# Altium footprint library CONNECTOR.PcbLib: 181 footprints (part 11 of 12)
Each footprint in its own frame and in the unit in brackets; x right, y up, seen from the top. Pads: shape width x height; smd on the part's side, far side on the other; paste and mask are expansions set on the pad; w line width, h text height; cw(c..) or ccw(c..) is an arc to the next point about the centre after c.
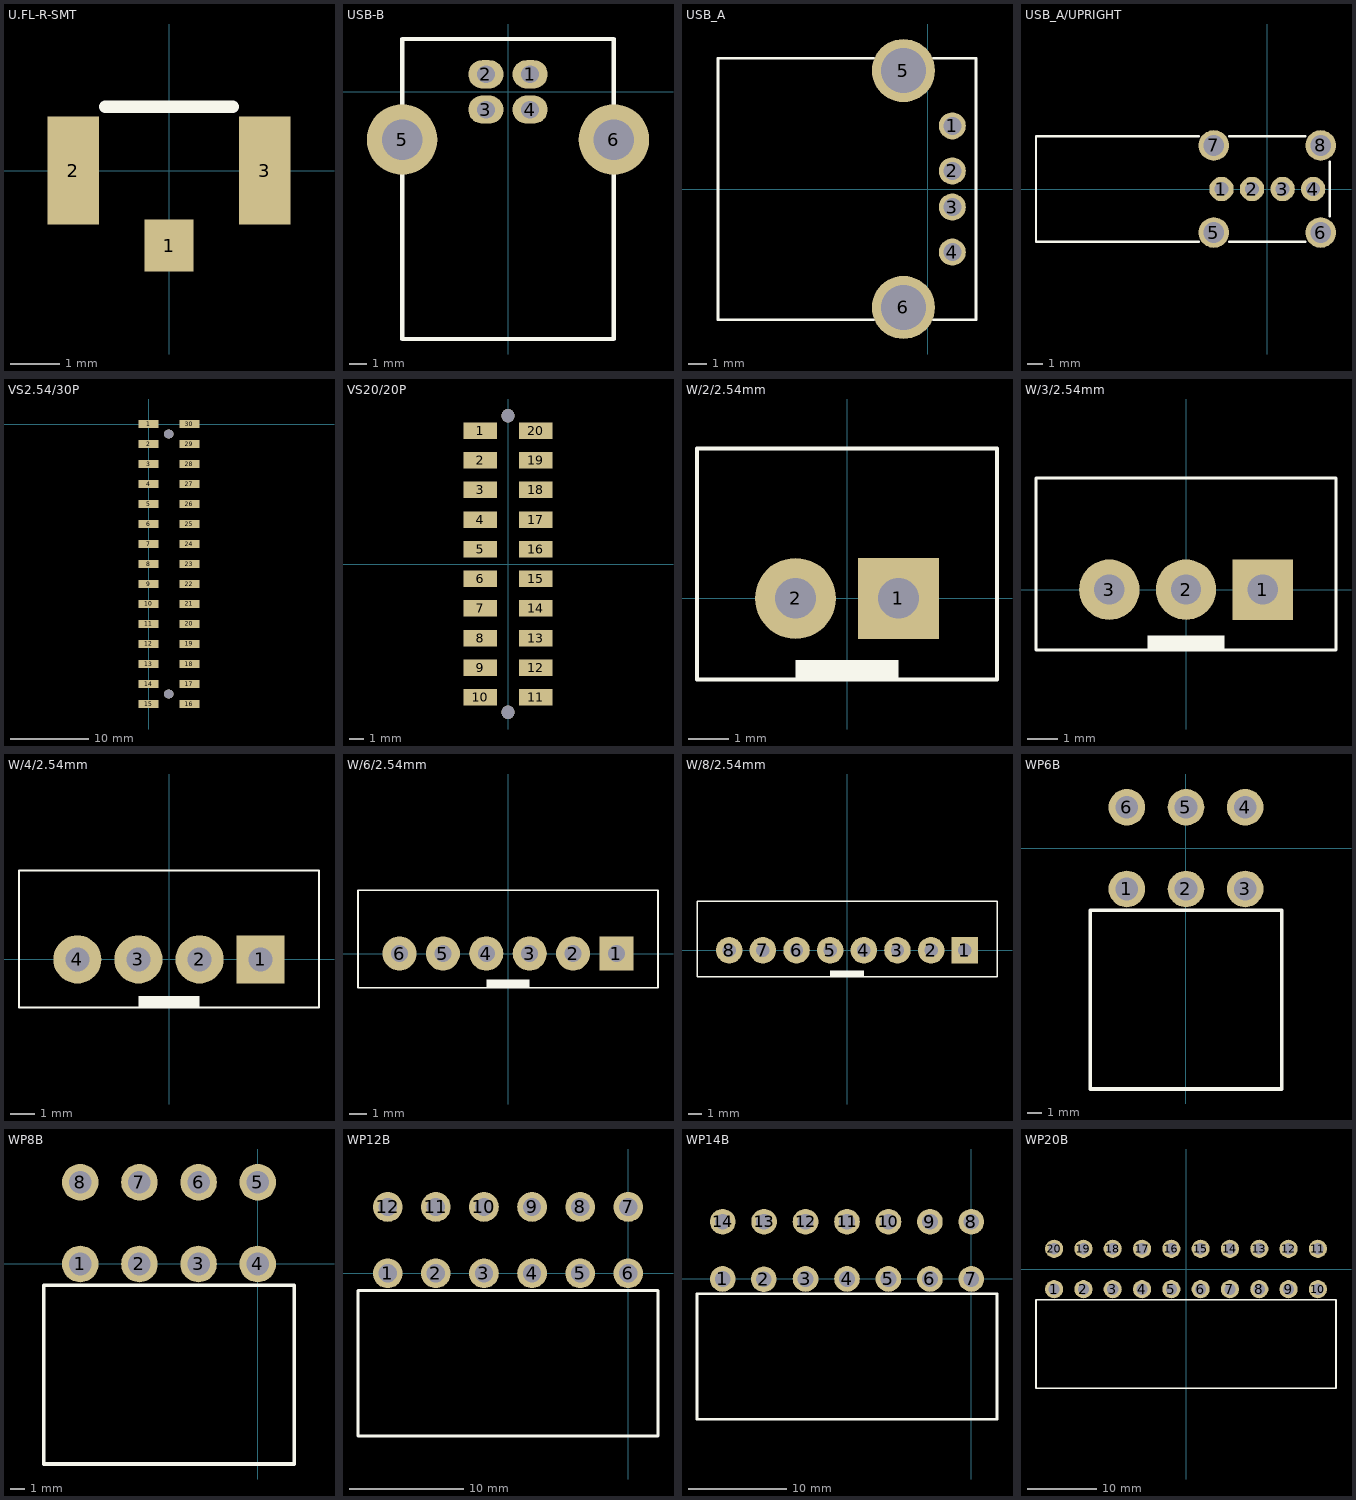
[diagram p10: the footprints below, top view; thin cyan lines are the x and y axes]

## U.FL-R-SMT [mm] "HIROSE U.FL"
height 1.25
pads (3):
  rect 1x1.05 smd: 1(0,-1.525)
  rect 1.05x2.2 smd: 2(-1.95,0) 3(1.95,0)
Top Overlay:
  lines w0.254: -1.3,1.3 1.3,1.3

## USB-B [mm]
height 11
pads (6):
  oval 2x1.6 hole 1: 1(1.25,1) 2(-1.25,1) 3(-1.25,-1) 4(1.25,-1)
  round 4 hole 2.3: 5(-6,-2.7) 6(6,-2.7)
Top Overlay:
  lines w0.254: -6,-14 -6,3 6,3 6,-14 -6,-14

## USB_A [mm] "USB CONNECTOR A TYPE"
height 7
pads (6):
  round 1.5 hole 1: 1(1.355,3.5) 2(1.355,1) 3(1.355,-1) 4(1.355,-3.5)
  round 3.5 hole 2.5: 5(-1.355,6.57) 6(-1.355,-6.57)
Top Overlay:
  lines w0.152: -3.005,-7.25 -11.635,-7.25 -11.635,7.25 -3.005,7.25 ; 0.295,-7.25 2.665,-7.25 2.665,7.25 0.295,7.25

## USB_A/UPRIGHT [mm] "ASTRON"
height 14.3
pads (8):
  round 1.6 hole 0.92: 1(-3,0) 2(-1,0) 3(1,0) 4(3,0)
  round 2 hole 1.35: 5(-3.5,-2.85) 6(3.5,-2.85) 7(-3.5,2.85) 8(3.5,2.85)
Top Overlay:
  lines w0.152: -4.5,-3.46 -15.15,-3.46 -15.15,3.46 -4.5,3.46 ; -2.5,-3.46 2.5,-3.46 ; -2.5,3.46 2.5,3.46 ; 4.1,-1.8 4.1,1.8

## VS2.54/30P [mm] "Vertical SMT 2.54mm Pitch"
height 7.5
pads (30):
  rect 2.54x1 smd: 1(0,0) 2(0,-2.54) 3(0,-5.08) 4(0,-7.62) 5(0,-10.16) 6(0,-12.7) 7(0,-15.24) 8(0,-17.78) 9(0,-20.32) 10(0,-22.86) 11(0,-25.4) 12(0,-27.94) 13(0,-30.48) 14(0,-33.02) 15(0,-35.56) 16(5.19,-35.56) 17(5.19,-33.02) 18(5.19,-30.48) 19(5.19,-27.94) 20(5.19,-25.4) 21(5.19,-22.86) 22(5.19,-20.32) 23(5.19,-17.78) 24(5.19,-15.24) 25(5.19,-12.7) 26(5.19,-10.16) 27(5.19,-7.62) 28(5.19,-5.08) 29(5.19,-2.54) 30(5.19,0)
via 2.59,-1.27 diameter 1.2 hole 1.2
via 2.59,-34.29 diameter 1.2 hole 1.2

## VS20/20P [mm] "Vertical SMT 2.0mm Pitch"
height 4.25
pads (20):
  rect 2.25x1.12 smd: 1(-1.875,9) 2(-1.875,7) 3(-1.875,5) 4(-1.875,3) 5(-1.875,1) 6(-1.875,-1) 7(-1.875,-3) 8(-1.875,-5) 9(-1.875,-7) 10(-1.875,-9) 11(1.875,-9) 12(1.875,-7) 13(1.875,-5) 14(1.875,-3) 15(1.875,-1) 16(1.875,1) 17(1.875,3) 18(1.875,5) 19(1.875,7) 20(1.875,9)
via 0,10 diameter 0.9 hole 0.9
via 0,-10 diameter 0.9 hole 0.9

## W/2/2.54mm [mm] "2.54mm白色针座"
height 7
pads (2):
  rect 2x2 hole 1: 1(1.27,0)
  round 2 hole 1: 2(-1.27,0)
Top Overlay:
  rectangle: -1.27,-2 1.27,-1.524
  lines w0.102: -3.7,-2 3.7,-2 3.7,3.7 -3.7,3.7 -3.7,-2

## W/3/2.54mm [mm] "2.54mm白色针座"
height 7
pads (3):
  rect 2x2 hole 1: 1(2.54,0)
  round 2 hole 1: 2(0,0) 3(-2.54,0)
Top Overlay:
  rectangle: -1.27,-2 1.27,-1.524
  lines w0.102: -4.97,-2 -4.97,3.7 4.97,3.7 4.97,-2 -4.97,-2

## W/4/2.54mm [mm] "2.54mm白色插座"
height 7
pads (4):
  rect 2x2 hole 1: 1(3.81,0)
  round 2 hole 1: 2(1.27,0) 3(-1.27,0) 4(-3.81,0)
Top Overlay:
  rectangle: -1.27,-2 1.27,-1.524
  lines w0.102: -6.24,-2 6.24,-2 6.24,3.7 -6.24,3.7 -6.24,-2

## W/6/2.54mm [mm] "2.54mm白色针座"
height 7
pads (6):
  rect 2x2 hole 1: 1(6.35,0)
  round 2 hole 1: 2(3.81,0) 3(1.27,0) 4(-1.27,0) 5(-3.81,0) 6(-6.35,0)
Top Overlay:
  rectangle: -1.27,-2 1.27,-1.524
  lines w0.102: -8.78,-2 -8.78,3.7 8.78,3.7 8.78,-2 -8.78,-2

## W/8/2.54mm [mm] "2.54mm白色针座"
height 7
pads (8):
  rect 2x2 hole 1: 1(8.89,0)
  round 2 hole 1: 2(6.35,0) 3(3.81,0) 4(1.27,0) 5(-1.27,0) 6(-3.81,0) 7(-6.35,0) 8(-8.89,0)
Top Overlay:
  rectangle: -1.27,-2 1.27,-1.524
  lines w0.102: -11.32,-2 -11.32,3.7 11.32,3.7 11.32,-2 -11.32,-2

## WP6B [mm] "6 BEND PINS"
height 10
pads (6):
  round 2.6 hole 1.6: 1(-4.2,-2.9) 2(0,-2.9) 3(4.2,-2.9) 4(4.2,2.9) 5(0,2.9) 6(-4.2,2.9)
Top Overlay:
  lines w0.254: -6.8,-17.1 -6.8,-4.4 6.8,-4.4 6.8,-17.1 -6.8,-17.1

## WP8B [mm] "8 BEND PINS"
height 10
pads (8):
  round 2.6 hole 1.6: 1(-12.6,0) 2(-8.4,0) 3(-4.2,0) 4(0,0) 5(0,5.8) 6(-4.2,5.8) 7(-8.4,5.8) 8(-12.6,5.8)
Top Overlay:
  lines w0.254: -15.2,-14.2 -15.2,-1.5 2.6,-1.5 2.6,-14.2 -15.2,-14.2

## WP12B [mm] "12 BEND PINS"
height 10
pads (12):
  round 2.6 hole 1.6: 1(-21,0) 2(-16.8,0) 3(-12.6,0) 4(-8.4,0) 5(-4.2,0) 6(0,0) 7(0,5.8) 8(-4.2,5.8) 9(-8.4,5.8) 10(-12.6,5.8) 11(-16.8,5.8) 12(-21,5.8)
Top Overlay:
  lines w0.254: -23.6,-14.2 2.6,-14.2 2.6,-1.5 -23.6,-1.5 -23.6,-14.2

## WP14B [mm] "14 BEND PINS"
height 10
pads (14):
  round 2.6 hole 1.6: 1(-25.2,0) 2(-21.032,-0.021) 3(-16.8,0) 4(-12.6,0) 5(-8.4,0) 6(-4.2,0) 7(0,0) 8(0,5.8) 9(-4.2,5.8) 10(-8.4,5.8) 11(-12.6,5.8) 12(-16.8,5.8) 13(-21,5.8) 14(-25.2,5.8)
Top Overlay:
  lines w0.254: -27.8,-14.2 2.6,-14.2 2.6,-1.5 -27.8,-1.5 -27.8,-14.2

## WP20B [mm] "20 BEND PINS"
height 10
pads (20):
  round 2.6 hole 1.6: 1(-18.9,-2.9) 2(-14.7,-2.9) 3(-10.5,-2.9) 4(-6.3,-2.9) 5(-2.1,-2.9) 6(2.1,-2.9) 7(6.3,-2.9) 8(10.5,-2.9) 9(14.7,-2.9) 10(18.9,-2.9) 11(18.9,2.9) 12(14.7,2.9) 13(10.5,2.9) 14(6.3,2.9) 15(2.1,2.9) 16(-2.1,2.9) 17(-6.3,2.9) 18(-10.5,2.9) 19(-14.7,2.9) 20(-18.9,2.9)
Top Overlay:
  lines w0.254: -21.5,-17.1 21.5,-17.1 21.5,-4.4 -21.5,-4.4 -21.5,-17.1